# EAGLE library part 1981584-1 (library audio amplifier example)
Receptacle, micro-USB, type A/B Tyco Electronics
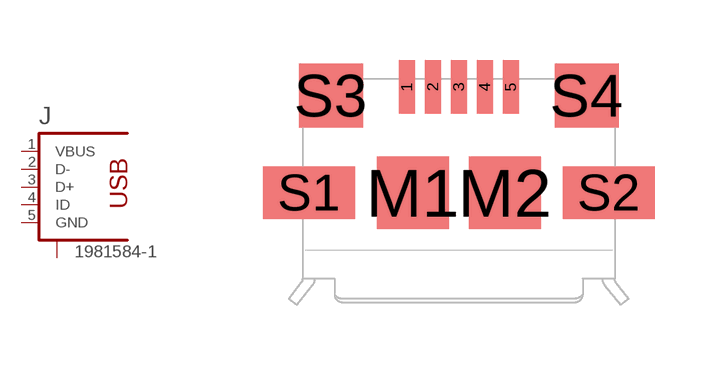
[diagram p0: symbol with the pads of 1981584-1; footprint 1981584-1]

Designator prefix J

## 1981584-1  [1981584-1]
1  VBUS  pas
2  D-  pas
3  D+  pas
4  ID  pas
5  GND  pas
S1  S1  pas

## Footprint 1981584-1 (pad centres in mm)
Micro USB Type-A/B Receptacle Tyco Electronics
smd 0.4 x 1.35: 1 -1.3,4.1; 2 -0.65,4.1; 3 0,4.1; 4 0.65,4.1; 5 1.3,4.1
smd 1.8 x 1.8: M1 -1.15,1.45; M2 1.15,1.45
smd 2.3 x 1.3: S1 -3.75,1.45; S2 3.75,1.45
smd 1.6 x 1.6: S3 -3.2,3.885; S4 3.2,3.885